# Altium footprint library Connector_Hirose.PcbLib: 136 footprints (part 8 of 9)
Each footprint in its own frame and in the unit in brackets; x right, y up, seen from the top. Pads: shape width x height; smd on the part's side, far side on the other; paste and mask are expansions set on the pad; w line width, h text height; cw(c..) or ccw(c..) is an arc to the next point about the centre after c.
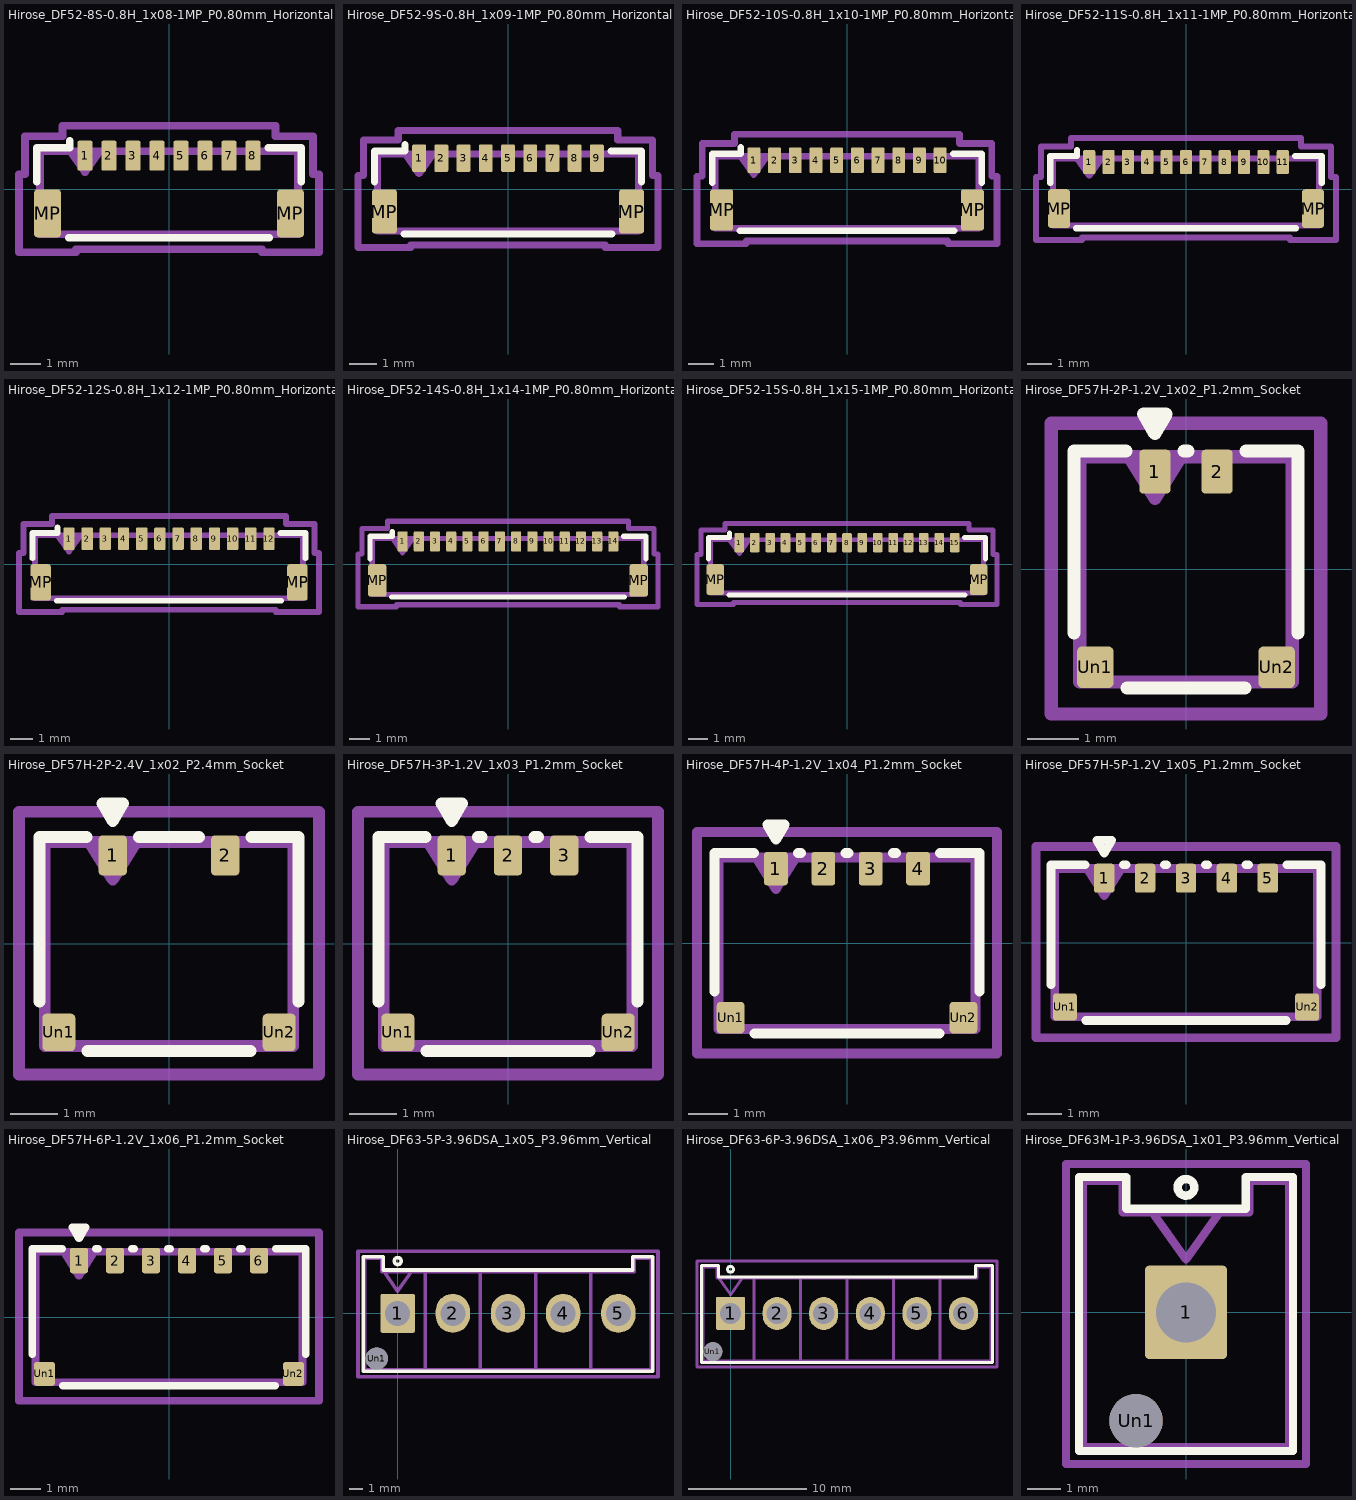
[diagram p7: the footprints below, top view; thin cyan lines are the x and y axes]

## Hirose_DF52-8S-0.8H_1x08-1MP_P0.80mm_Horizontal [mm]
pads (10):
  rrect25% 0.5x1 smd: 1(-2.8,1.11) 2(-2,1.11) 3(-1.2,1.11) 4(-0.4,1.11) 5(0.4,1.11) 6(1.2,1.11) 7(2,1.11) 8(2.8,1.11)
  rrect25% 0.9x1.6 smd: MP(-4.05,-0.81) MP(4.05,-0.81)
F.SilkS:
  lines w0.254: -4.41,0.25 -4.41,1.37 -3.31,1.37 -3.31,1.61 ; -3.34,-1.62 3.34,-1.62 ; 3.31,1.37 4.41,1.37 4.41,0.25
Top Assembly:
  lines w0.254: -3.3,1.26 -2.8,0.553 -2.3,1.26 ; -4.3,-1.51 4.3,-1.51 4.3,1.26 -4.3,1.26 -4.3,-1.51
  text "'.Designator'" at -4.047,-1.65 h1
Top Courtyard:
  lines w0.254: -5,-2.11 -3.1,-2.11 -3.1,-2.01 3.1,-2.01 3.1,-2.11 5,-2.11 5,0.49 4.8,0.49 4.8,1.76 3.55,1.76 3.55,2.11 -3.55,2.11 -3.55,1.76 -4.8,1.76 -4.8,0.49 -5,0.49 -5,-2.11
Top Designator:
  text ".Designator" at -7.618,-0.508 h1.52

## Hirose_DF52-9S-0.8H_1x09-1MP_P0.80mm_Horizontal [mm]
pads (11):
  rrect25% 0.5x1 smd: 1(-3.2,1.11) 2(-2.4,1.11) 3(-1.6,1.11) 4(-0.8,1.11) 5(0,1.11) 6(0.8,1.11) 7(1.6,1.11) 8(2.4,1.11) 9(3.2,1.11)
  rrect25% 0.9x1.6 smd: MP(-4.45,-0.81) MP(4.45,-0.81)
F.SilkS:
  lines w0.254: -4.81,0.25 -4.81,1.37 -3.71,1.37 -3.71,1.61 ; -3.74,-1.62 3.74,-1.62 ; 3.71,1.37 4.81,1.37 4.81,0.25
Top Assembly:
  lines w0.254: -3.7,1.26 -3.2,0.553 -2.7,1.26 ; -4.7,-1.51 4.7,-1.51 4.7,1.26 -4.7,1.26 -4.7,-1.51
  text "'.Designator'" at -4.047,-1.65 h1
Top Courtyard:
  lines w0.254: -5.4,-2.11 -3.5,-2.11 -3.5,-2.01 3.5,-2.01 3.5,-2.11 5.4,-2.11 5.4,0.49 5.2,0.49 5.2,1.76 3.95,1.76 3.95,2.11 -3.95,2.11 -3.95,1.76 -5.2,1.76 -5.2,0.49 -5.4,0.49 -5.4,-2.11
Top Designator:
  text ".Designator" at -7.618,-0.508 h1.52

## Hirose_DF52-10S-0.8H_1x10-1MP_P0.80mm_Horizontal [mm]
pads (12):
  rrect25% 0.5x1 smd: 1(-3.6,1.11) 2(-2.8,1.11) 3(-2,1.11) 4(-1.2,1.11) 5(-0.4,1.11) 6(0.4,1.11) 7(1.2,1.11) 8(2,1.11) 9(2.8,1.11) 10(3.6,1.11)
  rrect25% 0.9x1.6 smd: MP(-4.85,-0.81) MP(4.85,-0.81)
F.SilkS:
  lines w0.254: -5.21,0.25 -5.21,1.37 -4.11,1.37 -4.11,1.61 ; -4.14,-1.62 4.14,-1.62 ; 4.11,1.37 5.21,1.37 5.21,0.25
Top Assembly:
  lines w0.254: -4.1,1.26 -3.6,0.553 -3.1,1.26 ; -5.1,-1.51 5.1,-1.51 5.1,1.26 -5.1,1.26 -5.1,-1.51
  text "'.Designator'" at -4.047,-1.65 h1
Top Courtyard:
  lines w0.254: -5.8,-2.11 -3.89,-2.11 -3.89,-2.01 3.89,-2.01 3.89,-2.11 5.8,-2.11 5.8,0.49 5.6,0.49 5.6,1.76 4.35,1.76 4.35,2.11 -4.35,2.11 -4.35,1.76 -5.6,1.76 -5.6,0.49 -5.8,0.49 -5.8,-2.11
Top Designator:
  text ".Designator" at -7.618,-0.508 h1.52

## Hirose_DF52-11S-0.8H_1x11-1MP_P0.80mm_Horizontal [mm]
pads (13):
  rrect25% 0.5x1 smd: 1(-4,1.11) 2(-3.2,1.11) 3(-2.4,1.11) 4(-1.6,1.11) 5(-0.8,1.11) 6(0,1.11) 7(0.8,1.11) 8(1.6,1.11) 9(2.4,1.11) 10(3.2,1.11) 11(4,1.11)
  rrect25% 0.9x1.6 smd: MP(-5.25,-0.81) MP(5.25,-0.81)
F.SilkS:
  lines w0.254: -5.61,0.25 -5.61,1.37 -4.51,1.37 -4.51,1.61 ; -4.54,-1.62 4.54,-1.62 ; 4.51,1.37 5.61,1.37 5.61,0.25
Top Assembly:
  lines w0.254: -4.5,1.26 -4,0.553 -3.5,1.26 ; -5.5,-1.51 5.5,-1.51 5.5,1.26 -5.5,1.26 -5.5,-1.51
  text "'.Designator'" at -4.047,-1.65 h1
Top Courtyard:
  lines w0.254: -6.2,-2.11 -4.3,-2.11 -4.3,-2.01 4.3,-2.01 4.3,-2.11 6.2,-2.11 6.2,0.49 6,0.49 6,1.76 4.75,1.76 4.75,2.11 -4.75,2.11 -4.75,1.76 -6,1.76 -6,0.49 -6.2,0.49 -6.2,-2.11
Top Designator:
  text ".Designator" at -7.618,-0.508 h1.52

## Hirose_DF52-12S-0.8H_1x12-1MP_P0.80mm_Horizontal [mm]
pads (14):
  rrect25% 0.5x1 smd: 1(-4.4,1.11) 2(-3.6,1.11) 3(-2.8,1.11) 4(-2,1.11) 5(-1.2,1.11) 6(-0.4,1.11) 7(0.4,1.11) 8(1.2,1.11) 9(2,1.11) 10(2.8,1.11) 11(3.6,1.11) 12(4.4,1.11)
  rrect25% 0.9x1.6 smd: MP(-5.65,-0.81) MP(5.65,-0.81)
F.SilkS:
  lines w0.254: -6.01,0.25 -6.01,1.37 -4.91,1.37 -4.91,1.61 ; -4.94,-1.62 4.94,-1.62 ; 4.91,1.37 6.01,1.37 6.01,0.25
Top Assembly:
  lines w0.254: -4.9,1.26 -4.4,0.553 -3.9,1.26 ; -5.9,-1.51 5.9,-1.51 5.9,1.26 -5.9,1.26 -5.9,-1.51
  text "'.Designator'" at -4.047,-1.65 h1
Top Courtyard:
  lines w0.254: -6.6,-2.11 -4.7,-2.11 -4.7,-2.01 4.7,-2.01 4.7,-2.11 6.6,-2.11 6.6,0.49 6.4,0.49 6.4,1.76 5.15,1.76 5.15,2.11 -5.15,2.11 -5.15,1.76 -6.4,1.76 -6.4,0.49 -6.6,0.49 -6.6,-2.11
Top Designator:
  text ".Designator" at -7.618,-0.508 h1.52

## Hirose_DF52-14S-0.8H_1x14-1MP_P0.80mm_Horizontal [mm]
pads (16):
  rrect25% 0.5x1 smd: 1(-5.2,1.11) 2(-4.4,1.11) 3(-3.6,1.11) 4(-2.8,1.11) 5(-2,1.11) 6(-1.2,1.11) 7(-0.4,1.11) 8(0.4,1.11) 9(1.2,1.11) 10(2,1.11) 11(2.8,1.11) 12(3.6,1.11) 13(4.4,1.11) 14(5.2,1.11)
  rrect25% 0.9x1.6 smd: MP(-6.45,-0.81) MP(6.45,-0.81)
F.SilkS:
  lines w0.254: -6.81,0.25 -6.81,1.37 -5.71,1.37 -5.71,1.61 ; -5.74,-1.62 5.74,-1.62 ; 5.71,1.37 6.81,1.37 6.81,0.25
Top Assembly:
  lines w0.254: -5.7,1.26 -5.2,0.553 -4.7,1.26 ; -6.7,-1.51 6.7,-1.51 6.7,1.26 -6.7,1.26 -6.7,-1.51
  text "'.Designator'" at -4.047,-1.65 h1
Top Courtyard:
  lines w0.254: -7.4,-2.11 -5.5,-2.11 -5.5,-2.01 5.5,-2.01 5.5,-2.11 7.4,-2.11 7.4,0.49 7.2,0.49 7.2,1.76 5.95,1.76 5.95,2.11 -5.95,2.11 -5.95,1.76 -7.2,1.76 -7.2,0.49 -7.4,0.49 -7.4,-2.11
Top Designator:
  text ".Designator" at -7.618,-0.508 h1.52

## Hirose_DF52-15S-0.8H_1x15-1MP_P0.80mm_Horizontal [mm]
pads (17):
  rrect25% 0.5x1 smd: 1(-5.6,1.11) 2(-4.8,1.11) 3(-4,1.11) 4(-3.2,1.11) 5(-2.4,1.11) 6(-1.6,1.11) 7(-0.8,1.11) 8(0,1.11) 9(0.8,1.11) 10(1.6,1.11) 11(2.4,1.11) 12(3.2,1.11) 13(4,1.11) 14(4.8,1.11) 15(5.6,1.11)
  rrect25% 0.9x1.6 smd: MP(-6.85,-0.81) MP(6.85,-0.81)
F.SilkS:
  lines w0.254: -7.21,0.25 -7.21,1.37 -6.11,1.37 -6.11,1.61 ; -6.14,-1.62 6.14,-1.62 ; 6.11,1.37 7.21,1.37 7.21,0.25
Top Assembly:
  lines w0.254: -6.1,1.26 -5.6,0.553 -5.1,1.26 ; -7.1,-1.51 7.1,-1.51 7.1,1.26 -7.1,1.26 -7.1,-1.51
  text "'.Designator'" at -4.047,-1.65 h1
Top Courtyard:
  lines w0.254: -7.8,-2.11 -5.9,-2.11 -5.9,-2.01 5.9,-2.01 5.9,-2.11 7.8,-2.11 7.8,0.49 7.6,0.49 7.6,1.76 6.35,1.76 6.35,2.11 -6.35,2.11 -6.35,1.76 -7.6,1.76 -7.6,0.49 -7.8,0.49 -7.8,-2.11
Top Designator:
  text ".Designator" at -7.618,-0.508 h1.52

## Hirose_DF57H-2P-1.2V_1x02_P1.2mm_Socket [mm]
pads (4):
  rrect25% 0.6x0.85 smd: 1(-0.6,1.887) 2(0.6,1.887)
  rrect25% 0.7x0.8 smd: Un1(-1.75,-1.887) Un2(1.75,-1.887)
F.SilkS:
  lines w0.254: -2.16,-1.228 -2.16,2.285 -1.16,2.285 ; -1.14,-2.285 1.14,-2.285 ; -0.04,2.285 0.04,2.285 ; 1.16,2.285 2.16,2.285 2.16,-1.228 ; -0.817,3 -0.383,3 -0.6,2.625 -0.817,3
Top Assembly:
  lines w0.254: -1.1,2.175 -0.6,1.375 -0.1,2.175 ; -2.05,-2.175 2.05,-2.175 2.05,2.175 -2.05,2.175 -2.05,-2.175
  text "'.Designator'" at -4.047,-0.84 h1
Top Courtyard:
  lines w0.254: -2.6,-2.79 2.6,-2.79 2.6,2.82 -2.6,2.82 -2.6,-2.79
Top Designator:
  text ".Designator" at -7.768,-0.403 h1.52

## Hirose_DF57H-2P-2.4V_1x02_P2.4mm_Socket [mm]
pads (4):
  rrect25% 0.6x0.85 smd: 1(-1.2,1.887) 2(1.2,1.887)
  rrect25% 0.7x0.8 smd: Un1(-2.35,-1.887) Un2(2.35,-1.887)
F.SilkS:
  lines w0.254: -2.76,-1.228 -2.76,2.285 -1.76,2.285 ; -1.74,-2.285 1.74,-2.285 ; -0.64,2.285 0.64,2.285 ; 1.76,2.285 2.76,2.285 2.76,-1.228 ; -1.417,3 -0.983,3 -1.2,2.625 -1.417,3
Top Assembly:
  lines w0.254: -1.7,2.175 -1.2,1.375 -0.7,2.175 ; -2.65,-2.175 2.65,-2.175 2.65,2.175 -2.65,2.175 -2.65,-2.175
  text "'.Designator'" at -4.047,-0.84 h1
Top Courtyard:
  lines w0.254: -3.2,-2.79 3.2,-2.79 3.2,2.82 -3.2,2.82 -3.2,-2.79
Top Designator:
  text ".Designator" at -7.768,-0.403 h1.52

## Hirose_DF57H-3P-1.2V_1x03_P1.2mm_Socket [mm]
pads (5):
  rrect25% 0.6x0.85 smd: 1(-1.2,1.887) 2(0,1.887) 3(1.2,1.887)
  rrect25% 0.7x0.8 smd: Un1(-2.35,-1.887) Un2(2.35,-1.887)
F.SilkS:
  lines w0.254: -2.76,-1.228 -2.76,2.285 -1.76,2.285 ; -1.74,-2.285 1.74,-2.285 ; -0.64,2.285 -0.56,2.285 ; 0.56,2.285 0.64,2.285 ; 1.76,2.285 2.76,2.285 2.76,-1.228 ; -1.417,3 -0.983,3 -1.2,2.625 -1.417,3
Top Assembly:
  lines w0.254: -1.7,2.175 -1.2,1.375 -0.7,2.175 ; -2.65,-2.175 2.65,-2.175 2.65,2.175 -2.65,2.175 -2.65,-2.175
  text "'.Designator'" at -4.047,-0.84 h1
Top Courtyard:
  lines w0.254: -3.2,-2.79 3.2,-2.79 3.2,2.82 -3.2,2.82 -3.2,-2.79
Top Designator:
  text ".Designator" at -7.768,-0.403 h1.52

## Hirose_DF57H-4P-1.2V_1x04_P1.2mm_Socket [mm]
pads (6):
  rrect25% 0.6x0.85 smd: 1(-1.8,1.887) 2(-0.6,1.887) 3(0.6,1.887) 4(1.8,1.887)
  rrect25% 0.7x0.8 smd: Un1(-2.95,-1.887) Un2(2.95,-1.887)
F.SilkS:
  lines w0.254: -3.36,-1.228 -3.36,2.285 -2.36,2.285 ; -2.34,-2.285 2.34,-2.285 ; -1.24,2.285 -1.16,2.285 ; -0.04,2.285 0.04,2.285 ; 1.16,2.285 1.24,2.285 ; 2.36,2.285 3.36,2.285 3.36,-1.228 ; -2.017,3 -1.583,3 -1.8,2.625 -2.017,3
Top Assembly:
  lines w0.254: -2.3,2.175 -1.8,1.375 -1.3,2.175 ; -3.25,-2.175 3.25,-2.175 3.25,2.175 -3.25,2.175 -3.25,-2.175
  text "'.Designator'" at -4.047,-0.84 h1
Top Courtyard:
  lines w0.254: -3.8,-2.79 3.8,-2.79 3.8,2.82 -3.8,2.82 -3.8,-2.79
Top Designator:
  text ".Designator" at -7.752,-0.403 h1.52

## Hirose_DF57H-5P-1.2V_1x05_P1.2mm_Socket [mm]
pads (7):
  rrect25% 0.6x0.85 smd: 1(-2.4,1.887) 2(-1.2,1.887) 3(0,1.887) 4(1.2,1.887) 5(2.4,1.887)
  rrect25% 0.7x0.8 smd: Un1(-3.55,-1.887) Un2(3.55,-1.887)
F.SilkS:
  lines w0.254: -3.96,-1.228 -3.96,2.285 -2.96,2.285 ; -2.94,-2.285 2.94,-2.285 ; -1.84,2.285 -1.76,2.285 ; -0.64,2.285 -0.56,2.285 ; 0.56,2.285 0.64,2.285 ; 1.76,2.285 1.84,2.285 ; 2.96,2.285 3.96,2.285 3.96,-1.228 ; -2.617,3 -2.183,3 -2.4,2.625 -2.617,3
Top Assembly:
  lines w0.254: -2.9,2.175 -2.4,1.375 -1.9,2.175 ; -3.85,-2.175 3.85,-2.175 3.85,2.175 -3.85,2.175 -3.85,-2.175
  text "'.Designator'" at -4.047,-0.84 h1
Top Courtyard:
  lines w0.254: -4.4,-2.79 4.4,-2.79 4.4,2.82 -4.4,2.82 -4.4,-2.79
Top Designator:
  text ".Designator" at -7.618,-0.403 h1.52

## Hirose_DF57H-6P-1.2V_1x06_P1.2mm_Socket [mm]
pads (8):
  rrect25% 0.6x0.85 smd: 1(-3,1.887) 2(-1.8,1.887) 3(-0.6,1.887) 4(0.6,1.887) 5(1.8,1.887) 6(3,1.887)
  rrect25% 0.7x0.8 smd: Un1(-4.15,-1.887) Un2(4.15,-1.887)
F.SilkS:
  lines w0.254: -4.56,-1.228 -4.56,2.285 -3.56,2.285 ; -3.54,-2.285 3.54,-2.285 ; -2.44,2.285 -2.36,2.285 ; -1.24,2.285 -1.16,2.285 ; -0.04,2.285 0.04,2.285 ; 1.16,2.285 1.24,2.285 ; 2.36,2.285 2.44,2.285 ; 3.56,2.285 4.56,2.285 4.56,-1.228 ; -3.217,3 -2.783,3 -3,2.625 -3.217,3
Top Assembly:
  lines w0.254: -3.5,2.175 -3,1.375 -2.5,2.175 ; -4.45,-2.175 4.45,-2.175 4.45,2.175 -4.45,2.175 -4.45,-2.175
  text "'.Designator'" at -4.047,-0.84 h1
Top Courtyard:
  lines w0.254: -5,-2.79 5,-2.79 5,2.82 -5,2.82 -5,-2.79
Top Designator:
  text ".Designator" at -7.618,-0.403 h1.52

## Hirose_DF63-5P-3.96DSA_1x05_P3.96mm_Vertical [mm]
pads (6):
  rrect10% 2.46x2.8 hole 1.8: 1(0,0)
  rrect100% 2.46x2.8 hole 1.8: 2(3.96,0) 3(7.92,0) 4(11.88,0) 5(15.84,0)
  round 1.6 hole 1.6: Un1(-1.5,-3.25)
F.SilkS:
  circle w0.254: c0,3.75 r0.25
  lines w0.254: -2.46,-4.16 7.92,-4.16 18.3,-4.16 18.3,4.06 16.88,4.06 16.88,3.11 7.92,3.11 -1.04,3.11 -1.04,4.06 -2.46,4.06 -2.46,-4.16
Top Assembly:
  lines w0.254: -1,3 0,1.586 1,3 ; 1.98,-4.05 1.98,3 ; 5.94,-4.05 5.94,3 ; 9.9,-4.05 9.9,3 ; 13.86,-4.05 13.86,3 ; -2.35,-4.05 7.92,-4.05 18.19,-4.05 18.19,3.95 16.99,3.95 16.99,3 7.92,3 -1.15,3 -1.15,3.95 -2.35,3.95 -2.35,-4.05
  text "'.Designator'" at 3.873,2.91 h1
Top Courtyard:
  lines w0.254: -2.85,-4.55 18.69,-4.55 18.69,4.45 -2.85,4.45 -2.85,-4.55
Top Designator:
  text ".Designator" at 0.302,-0.558 h1.52

## Hirose_DF63-6P-3.96DSA_1x06_P3.96mm_Vertical [mm]
pads (7):
  rrect10% 2.46x2.8 hole 1.8: 1(0,0)
  rrect100% 2.46x2.8 hole 1.8: 2(3.96,0) 3(7.92,0) 4(11.88,0) 5(15.84,0) 6(19.8,0)
  round 1.6 hole 1.6: Un1(-1.5,-3.25)
F.SilkS:
  circle w0.254: c0,3.75 r0.25
  lines w0.254: -2.46,-4.16 9.9,-4.16 22.26,-4.16 22.26,4.06 20.84,4.06 20.84,3.11 9.9,3.11 -1.04,3.11 -1.04,4.06 -2.46,4.06 -2.46,-4.16
Top Assembly:
  lines w0.254: -1,3 0,1.586 1,3 ; 1.98,-4.05 1.98,3 ; 5.94,-4.05 5.94,3 ; 13.86,-4.05 13.86,3 ; 17.82,-4.05 17.82,3 ; 9.9,-4.05 22.15,-4.05 22.15,3.95 20.95,3.95 20.95,3 9.9,3 ; 9.9,-4.05 -2.35,-4.05 -2.35,3.95 -1.15,3.95 -1.15,3 9.9,3 ; 9.9,-4.05 9.9,3
  text "'.Designator'" at 5.853,2.91 h1
Top Courtyard:
  lines w0.254: -2.85,-4.55 22.65,-4.55 22.65,4.45 -2.85,4.45 -2.85,-4.55
Top Designator:
  text ".Designator" at 2.282,-0.558 h1.52

## Hirose_DF63M-1P-3.96DSA_1x01_P3.96mm_Vertical [mm]
pads (2):
  rrect10% 2.46x2.8 hole 1.8: 1(0,0)
  round 1.6 hole 1.6: Un1(-1.5,-3.25)
F.SilkS:
  circle w0.254: c0,3.75 r0.25
  lines w0.254: -3.21,-4.16 0,-4.16 3.21,-4.16 3.21,4.06 1.79,4.06 1.79,3.11 0,3.11 -1.79,3.11 -1.79,4.06 -3.21,4.06 -3.21,-4.16
Top Assembly:
  lines w0.254: -1,3 0,1.586 1,3 ; -3.1,-4.05 0,-4.05 3.1,-4.05 3.1,3.95 1.9,3.95 1.9,3 0,3 -1.9,3 -1.9,3.95 -3.1,3.95 -3.1,-4.05
  text "'.Designator'" at -4.047,2.91 h1
Top Courtyard:
  lines w0.254: -3.6,-4.55 3.6,-4.55 3.6,4.45 -3.6,4.45 -3.6,-4.55
Top Designator:
  text ".Designator" at -7.768,-0.558 h1.52